# Altium footprint library blecontrollerPCB1_master.PcbLib: 180 footprints (part 3 of 12)
Each footprint in its own frame and in the unit in brackets; x right, y up, seen from the top. Pads: shape width x height; smd on the part's side, far side on the other; paste and mask are expansions set on the pad; w line width, h text height; cw(c..) or ccw(c..) is an arc to the next point about the centre after c.
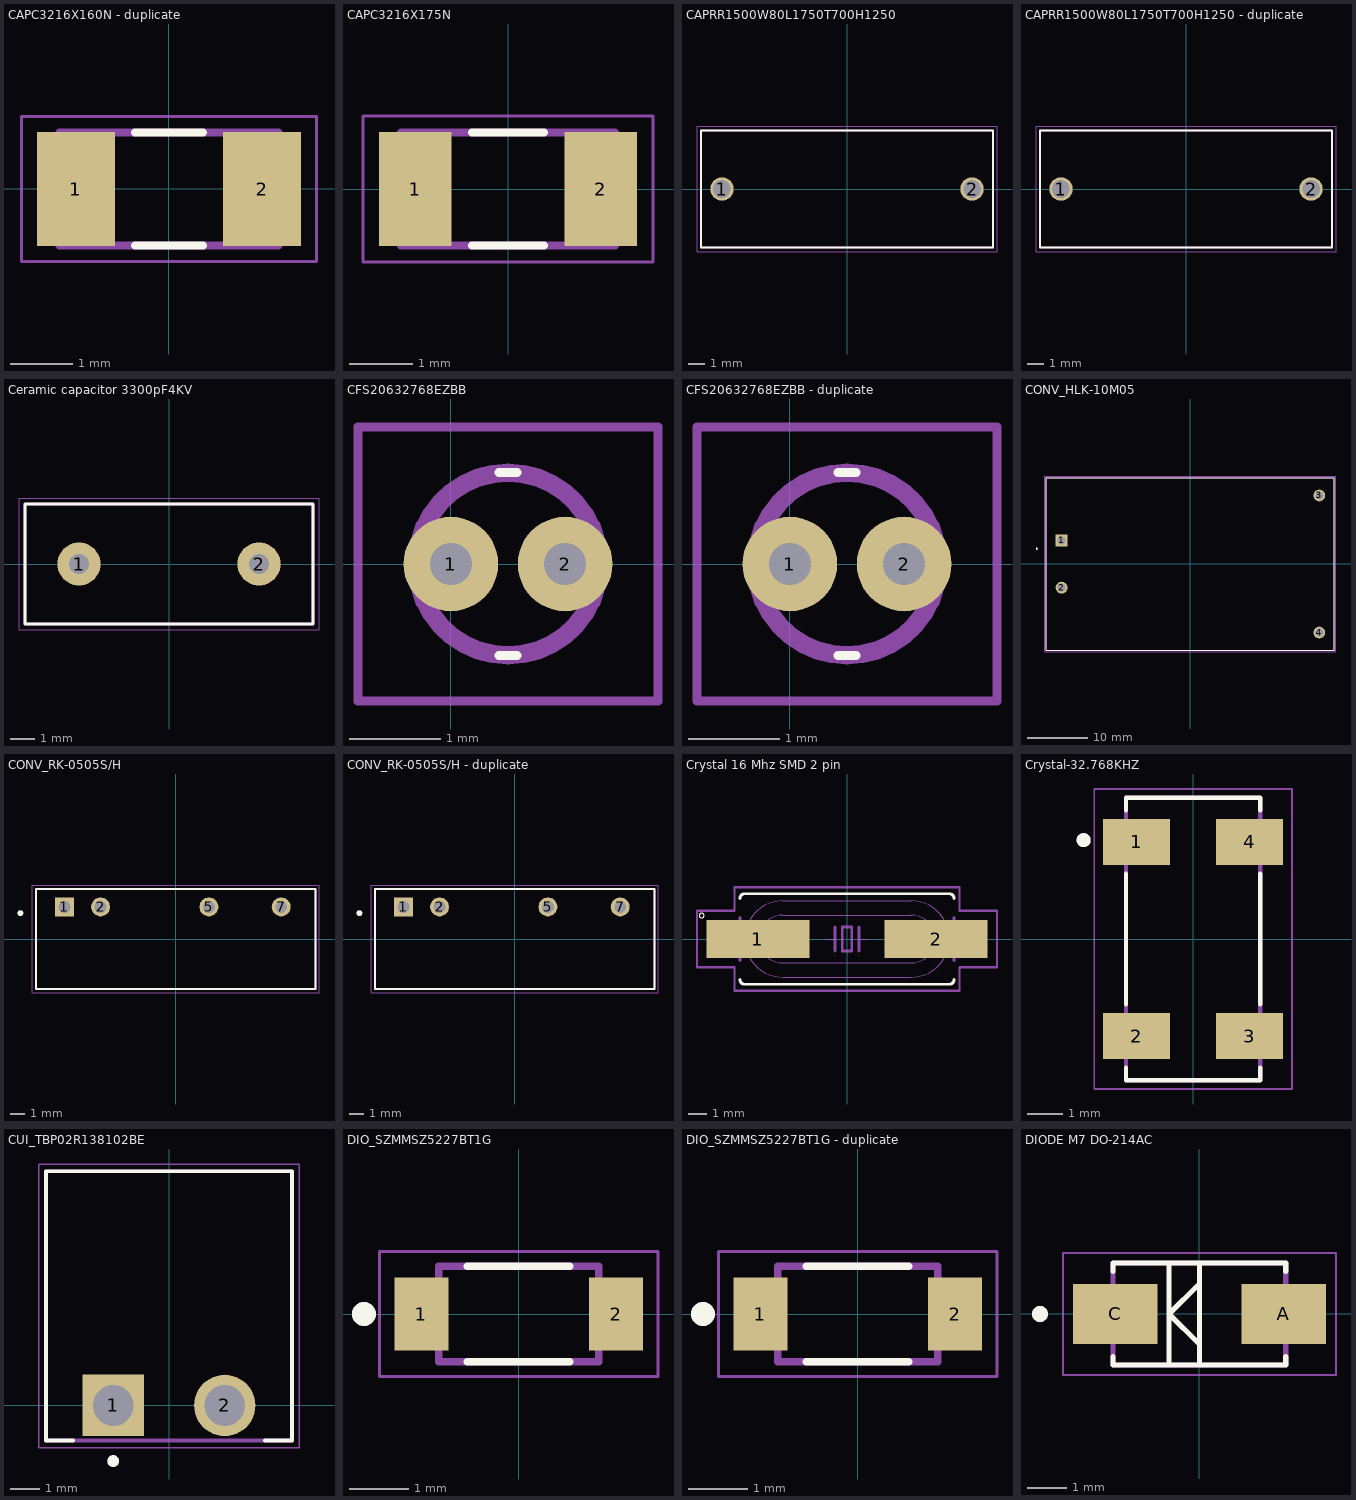
[diagram p2: the footprints below, top view; thin cyan lines are the x and y axes]

## CAPC3216X160N - duplicate [mm]
pads (2):
  rect 1.24x1.82 smd: 1(-1.485,0) 2(1.485,0)
Top Overlay:
  lines w0.127: -0.54,-0.9 0.54,-0.9 ; -0.54,0.9 0.54,0.9
Mechanical 13:
  lines w0.127: -1.75,-0.9 -1.75,0.9 1.75,0.9 1.75,-0.9 -1.75,-0.9
Mechanical 15:
  lines w0.05: -2.355,-1.158 -2.355,1.158 2.355,1.158 2.355,-1.158 -2.355,-1.158
3D body "step_temp.STEP": height 1.6, standoff 0, extent -1.6,-0.8 1.6,0.8

## CAPC3216X175N [mm]
pads (2):
  rect 1.16x1.82 smd: 1(-1.475,0) 2(1.475,0)
Top Overlay:
  lines w0.127: -0.57,-0.9 0.57,-0.9 ; -0.57,0.9 0.57,0.9
Mechanical 13:
  lines w0.127: -1.7,-0.9 1.7,-0.9 1.7,0.9 -1.7,0.9 -1.7,-0.9
Mechanical 15:
  lines w0.05: -2.308,-1.158 2.308,-1.158 2.308,1.158 -2.308,1.158 -2.308,-1.158
3D body "step_temp.STEP": height 1.75, standoff 0, extent -1.6,-0.8 1.6,0.8

## CAPRR1500W80L1750T700H1250 [mm]
pads (2):
  round 1.4 hole 1.05: 1(-7.5,0) 2(7.5,0)
Top Overlay:
  lines w0.127: -8.75,-3.5 -8.75,3.5 8.75,3.5 8.75,-3.5 -8.75,-3.5
Mechanical 13:
  lines w0.127: -8.75,-3.5 8.75,-3.5 8.75,3.5 -8.75,3.5 -8.75,-3.5
Mechanical 15:
  lines w0.05: -9,-3.75 9,-3.75 9,3.75 -9,3.75 -9,-3.75

## CAPRR1500W80L1750T700H1250 - duplicate [mm]
pads (2):
  round 1.4 hole 1.05: 1(-7.5,0) 2(7.5,0)
Top Overlay:
  lines w0.127: -8.75,-3.5 -8.75,3.5 8.75,3.5 8.75,-3.5 -8.75,-3.5
Mechanical 13:
  lines w0.127: -8.75,-3.5 8.75,-3.5 8.75,3.5 -8.75,3.5 -8.75,-3.5
Mechanical 15:
  lines w0.05: -9,-3.75 9,-3.75 9,3.75 -9,3.75 -9,-3.75

## Ceramic capacitor 3300pF4KV [mm] "Ceramic capacitor 3300pF4KV, Tension nominale 400Vac(r.m.s.), 4KV ESD, DE2E3SA332MA3BY02F"
pads (2):
  round 1.8 hole 0.85: 1(-3.75,0) 2(3.75,0)
Top Overlay:
  lines w0.127: -6,-2.5 6,-2.5 6,2.5 -6,2.5 -6,-2.5
Mechanical 13:
  lines w0.127: -6,-2.5 6,-2.5 6,2.5 -6,2.5 -6,-2.5
Mechanical 15:
  lines w0.05: -6.25,-2.75 6.25,-2.75 6.25,2.75 -6.25,2.75 -6.25,-2.75
3D body "step_temp.STEP": height 15, standoff -25, extent -6,-2.5 6,2.5

## CFS20632768EZBB [mm]
pads (2):
  round 1.035 hole 0.46: 1(0,0) 2(1.25,0)
Top Overlay:
  lines w0.1: 0.525,-1 0.725,-1 ; 0.525,1 0.725,1
Mechanical 13:
  lines w0.1: -1.017,-1.5 2.267,-1.5 2.267,1.5 -1.017,1.5 -1.017,-1.5
  lines w0.2: 0.625,-1 ccw(c0.625,0) 0.625,1 ccw(c0.625,0) 0.625,-1
3D body "step_temp.STEP": height 7.42, standoff -5.08, extent 0.275,-0.95 0.975,0.95

## CFS20632768EZBB - duplicate [mm]
pads (2):
  round 1.035 hole 0.46: 1(0,0) 2(1.25,0)
Top Overlay:
  lines w0.1: 0.525,-1 0.725,-1 ; 0.525,1 0.725,1
Mechanical 13:
  lines w0.1: -1.017,-1.5 2.267,-1.5 2.267,1.5 -1.017,1.5 -1.017,-1.5
  lines w0.2: 0.625,-1 ccw(c0.625,0) 0.625,1 ccw(c0.625,0) 0.625,-1
3D body "step_temp.STEP": height 7.42, standoff -5.08, extent 0.275,-0.95 0.975,0.95

## CONV_HLK-10M05 [mm]
height 22
pads (4):
  rect 1.95x1.95 / inner round 1.95 / far side rect 1.95x1.95 hole 1.3: 1(-21.25,3.9)
  round 1.95 hole 1.3: 2(-21.25,-3.9) 3(21.25,11.3) 4(21.25,-11.3)
Top Overlay:
  circle w0.2: c-25.37,2.5 r0.1
  lines w0.127: -23.75,-14.25 -23.75,14.25 23.75,14.25 23.75,-14.25 -23.75,-14.25
Mechanical 13:
  circle w0.2: c-25.37,2.5 r0.1
  lines w0.127: -23.75,-14.25 -23.75,14.25 23.75,14.25 23.75,-14.25 -23.75,-14.25
Mechanical 15:
  lines w0.05: -24,-14.5 24,-14.5 24,14.5 -24,14.5 -24,-14.5
3D body "step_temp.STEP": height 22, standoff -5, extent -23.75,-14.25 23.75,14.25

## CONV_RK-0505S/H [mm]
pads (4):
  rect 1.328x1.328 / inner round 1.328 / far side rect 1.328x1.328 hole 0.82: 1(-7.825,2.255)
  round 1.328 hole 0.82: 2(-5.285,2.255) 5(2.335,2.255) 7(7.415,2.255)
Top Overlay:
  circle w0.2: c-10.92,1.82 r0.1
  lines w0.127: -9.825,-3.525 9.825,-3.525 9.825,3.525 -9.825,3.525 -9.825,-3.525
Mechanical 13:
  circle w0.2: c-10.91,1.82 r0.1
  lines w0.127: -9.825,-3.525 9.825,-3.525 9.825,3.525 -9.825,3.525 -9.825,-3.525
Mechanical 15:
  lines w0.05: -10.075,-3.775 10.075,-3.775 10.075,3.775 -10.075,3.775 -10.075,-3.775

## CONV_RK-0505S/H - duplicate [mm]
pads (4):
  rect 1.328x1.328 / inner round 1.328 / far side rect 1.328x1.328 hole 0.82: 1(-7.825,2.255)
  round 1.328 hole 0.82: 2(-5.285,2.255) 5(2.335,2.255) 7(7.415,2.255)
Top Overlay:
  circle w0.2: c-10.92,1.82 r0.1
  lines w0.127: -9.825,-3.525 9.825,-3.525 9.825,3.525 -9.825,3.525 -9.825,-3.525
Mechanical 13:
  circle w0.2: c-10.91,1.82 r0.1
  lines w0.127: -9.825,-3.525 9.825,-3.525 9.825,3.525 -9.825,3.525 -9.825,-3.525
Mechanical 15:
  lines w0.05: -10.075,-3.775 10.075,-3.775 10.075,3.775 -10.075,3.775 -10.075,-3.775

## Crystal 16 Mhz SMD 2 pin [mm] "16 MHz Â±30ppm Crystal 20pF 60 Ohms HC-49/US FOXSDLF/128-20 16 Mhz Crystal SMD –CSM-4ALX(28ALX) SMT12.5mmX4.85mmX4mm"
pads (2):
  rect 5.5x2 smd: 1(-4.75,0) 2(4.75,0)
Top Overlay:
  circle w0: c-7.75,1.25 r0.127
  lines w0.152: -5.715,-2.159 ccw(c-5.461,-2.159) -5.461,-2.413 5.461,-2.413 ccw(c5.461,-2.159) 5.715,-2.159 ; -5.715,2.159 cw(c-5.461,2.159) -5.461,2.413 5.461,2.413 cw(c5.461,2.159) 5.715,2.159
Mechanical 13:
  lines w0.051: -1.143,0 -0.635,0 ; 0.635,0 1.143,0 ; -5.114,-1.136 cw(c-3.429,0) -5.114,1.136 cw(c-3.429,0) -3.429,2.032 3.429,2.032 cw(c3.429,0) 5.114,1.136 cw(c3.429,0) 5.114,-1.136 cw(c3.429,0) 3.429,-2.032 -3.429,-2.032 cw(c-3.429,0) -5.114,-1.136 ; -3.986,-1.141 cw(c-3.429,0) -3.986,1.141 cw(c-3.429,0) -3.429,1.27 3.429,1.27 cw(c3.429,0) 3.986,1.141 cw(c3.429,0) 3.986,-1.141 cw(c3.429,0) 3.429,-1.27 -3.429,-1.27 cw(c-3.429,0) -3.986,-1.141
  lines w0.152: -5.715,-1.143 -5.715,1.143 ; -5.715,-0.381 -6.477,-0.381 -6.477,0.381 -5.715,0.381 ; -0.635,-0.635 -0.635,0 -0.635,0.635 ; 0.635,-0.635 0.635,0 0.635,0.635 ; 5.715,-1.143 5.715,-0.381 ; 5.715,1.143 5.715,0.381 ; 5.715,-0.381 6.477,-0.381 6.477,0.381 5.715,0.381 ; 5.715,-0.381 5.715,0.381 ; -0.254,-0.635 0.254,-0.635 0.254,0.635 -0.254,0.635 -0.254,-0.635
Mechanical 15:
  lines w0.127: -8,-1.5 -6,-1.5 -6,-2.75 6,-2.75 6,-1.5 8,-1.5 8,1.5 6,1.5 6,2.75 -6,2.75 -6,1.5 -8,1.5 -8,-1.5
3D body "step_temp.STEP": height 4.5, standoff 0, extent -6.75,-2.5 6.75,2.5

## Crystal-32.768KHZ [mm] "32.768 kHz Â±20ppm Crystal 6pF 50 kOhms 4-SOJ, 5.50mm pitch ABS25-32.768KHZ-6-T"
pads (4):
  rect 1.9x1.3 smd: 1(-1.6,2.75) 2(-1.6,-2.75) 3(1.6,-2.75) 4(1.6,2.75)
Top Overlay:
  circle w0.2: c-3.1,2.8 r0.1
  lines w0.127: -1.9,-3.65 -1.9,-4 1.9,-4 1.9,-3.65 ; -1.9,-1.85 -1.9,1.85 ; -1.9,3.65 -1.9,4 1.9,4 1.9,3.65 ; 1.9,-1.85 1.9,1.85
Mechanical 13:
  circle w0.2: c-3.1,2.8 r0.1
  lines w0.127: -1.9,-4 -1.9,4 1.9,4 1.9,-4 -1.9,-4
Mechanical 15:
  lines w0.05: -2.8,-4.25 -2.8,4.25 2.8,4.25 2.8,-4.25 -2.8,-4.25
3D body "step_temp.STEP": height 2.72, standoff 0.06, extent -2,-4 2,4

## CUI_TBP02R138102BE [mm]
height 7.2
pads (2):
  rect 2.1x2.1 / inner round 2.1 / far side rect 2.1x2.1 hole 1.4: 1(-1.905,0)
  round 2.1 hole 1.4: 2(1.905,0)
Top Overlay:
  circle w0.2: c-1.905,-1.9 r0.1
  lines w0.127: -3.275,-1.2 -4.205,-1.2 -4.205,8 4.205,8 4.205,-1.2 3.275,-1.2
Mechanical 13:
  circle w0.2: c-1.905,-1.9 r0.1
  lines w0.127: -4.205,-1.2 -4.205,8 4.205,8 4.205,-1.2 -4.205,-1.2
Mechanical 15:
  lines w0.05: -4.455,-1.45 -4.455,8.25 4.455,8.25 4.455,-1.45 -4.455,-1.45
3D body "step_temp.STEP": height 7.2, standoff -3.5, extent -4.191,-1.171 4.219,8.029

## DIO_SZMMSZ5227BT1G [mm]
pads (2):
  rect 0.91x1.22 smd paste+0 mask+0.102: 1(-1.635,0) 2(1.635,0)
Top Overlay:
  circle w0.2: c-2.6,0 r0.1
  lines w0.127: -0.86,-0.8 0.86,-0.8 ; -0.86,0.8 0.86,0.8
Mechanical 13:
  circle w0.2: c-2.6,0 r0.1
  lines w0.127: -1.345,-0.8 1.345,-0.8 1.345,0.8 -1.345,0.8 -1.345,-0.8
Mechanical 15:
  lines w0.05: -2.34,-1.05 -2.34,1.05 2.34,1.05 2.34,-1.05 -2.34,-1.05
3D body "step_temp.STEP": height 1.35, standoff 0, extent -1.84,-0.8 1.84,0.8

## DIO_SZMMSZ5227BT1G - duplicate [mm]
pads (2):
  rect 0.91x1.22 smd paste+0 mask+0.102: 1(-1.635,0) 2(1.635,0)
Top Overlay:
  circle w0.2: c-2.6,0 r0.1
  lines w0.127: -0.86,-0.8 0.86,-0.8 ; -0.86,0.8 0.86,0.8
Mechanical 13:
  circle w0.2: c-2.6,0 r0.1
  lines w0.127: -1.345,-0.8 1.345,-0.8 1.345,0.8 -1.345,0.8 -1.345,-0.8
Mechanical 15:
  lines w0.05: -2.34,-1.05 -2.34,1.05 2.34,1.05 2.34,-1.05 -2.34,-1.05
3D body "step_temp.STEP": height 1.35, standoff 0, extent -1.84,-0.8 1.84,0.8

## DIODE M7 DO-214AC [mm] "M7 General Purpose SMD Rectifier Diode SMA (DO-214AC) 1A 1000V 1n4007  DIOM4325X250N"
height 2.5
pads (2):
  rect 2.12x1.5 smd: A(2.115,0) C(-2.115,0)
Top Overlay:
  circle w0.2: c-4,0 r0.1
  lines w0.127: -2.165,-1.07 -2.165,-1.28 2.165,-1.28 2.165,-1.07 ; -2.165,1.07 -2.165,1.28 2.165,1.28 2.165,1.07 ; -0.762,-1.27 -0.762,1.27 ; 0,-1.28 0,-0.762 ; 0,1.28 0,0.762 ; 0,-0.762 -0.762,0 0,0.762 ; 0,-0.762 0,0.762
Mechanical 13:
  circle w0.2: c-4,0 r0.1
  lines w0.127: -2.165,-1.28 -2.165,1.28 2.165,1.28 2.165,-1.28 -2.165,-1.28
Mechanical 15:
  lines w0.05: -3.425,-1.53 -3.425,1.53 3.425,1.53 3.425,-1.53 -3.425,-1.53
3D body "step_temp.STEP": height 2.5, standoff 0, extent -2.57,-1.28 2.57,1.28